# EAGLE library part SDM10M45SD_SOT-26 (library SchottkyDiodes_SDM10M45SD)
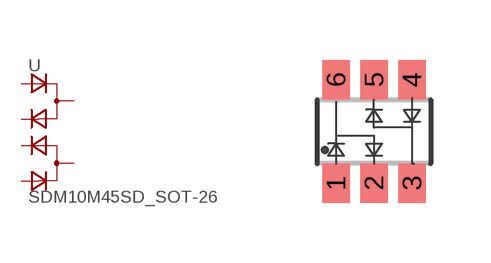
[diagram p0: symbol with the pads of SDM10M45SD_SOT-26; footprint SDM10M45SD_SOT-26]

Designator prefix -

## SDM10M45SD_SOT-26  [SDM10M45SD_SOT-26]
1  A2  pas
2  A1  pas
3  C1  pas
4  A3  pas
5  A4  pas
6  C  pas

## Footprint SDM10M45SD_SOT-26 (pad centres in mm)
DBV (R-PDSO-G6) PLASTIC SMALL-OUTLINE PACKAGE SOT (SOT-23) - DBV Source: http://focus.ti.com/lit/ds/symlink/sn74lvc1g3157.
smd 0.69 x 0.99: 1 -0.95,-1.29; 2 0,-1.29; 3 0.95,-1.29; 4 0.95,1.3; 5 0,1.3; 6 -0.95,1.3